# Altium schematic symbol library BrakeLight_symbols.SCHLIB: 3 symbols
Pins are listed as number, name and electrical type; pins without a type are passive.

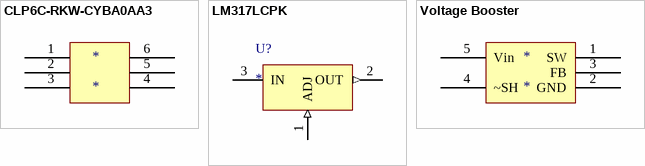
[diagram p0: symbols CLP6C-RKW-CYBA0AA3 to Voltage Booster]

## CLP6C-RKW-CYBA0AA3
designator *
footprint 3 channel led
pins: 1, 2, 3, 4, 5, 6

## LM317LCPK
designator U?
footprint LM317LCPK
pins: 1 ADJ (in), 2 OUT (out), 3 IN

## Voltage Booster
designator *
footprint Voltage Booster
pins: 1 SW, 2 GND, 3 FB, 4 ~SH, 5 Vin